# EAGLE library part MAX275 (library SaintGimp)
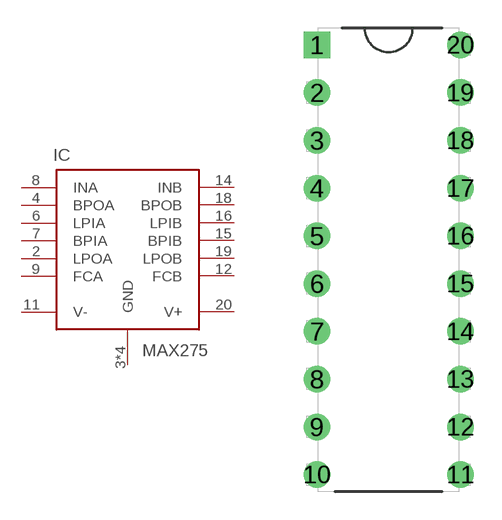
[diagram p22: symbol with the pads of DIP20; footprint DIP20]

Designator prefix IC

## MAX275ACP  [DIP20]
2  LPOA
3  GND  pwr
4  BPOA
5  GND  pwr
6  LPIA
7  BPIA
8  INA
9  FCA
10  GND  pwr
11  V-  pwr
12  FCB
14  INB
15  BPIB
16  LPIB
17  GND  pwr
18  BPOB
19  LPOB
20  V+  pwr

## Footprint DIP20 (pad centres in mm)
drill 0.9 square: 1 -3.81,11.43
drill 0.9: 2 -3.81,8.89; 3 -3.81,6.35; 4 -3.81,3.81; 5 -3.81,1.27; 6 -3.81,-1.27; 7 -3.81,-3.81; 8 -3.81,-6.35; 9 -3.81,-8.89; 10 -3.81,-11.43; 11 3.81,-11.43; 12 3.81,-8.89; 13 3.81,-6.35; 14 3.81,-3.81; 15 3.81,-1.27; 16 3.81,1.27; 17 3.81,3.81; 18 3.81,6.35; 19 3.81,8.89; 20 3.81,11.43